# Altium footprint library 36903205S.PcbLib: 1 footprints
Each footprint in its own frame and in the unit in brackets; x right, y up, seen from the top. Pads: shape width x height; smd on the part's side, far side on the other; paste and mask are expansions set on the pad; w line width, h text height; cw(c..) or ccw(c..) is an arc to the next point about the centre after c.
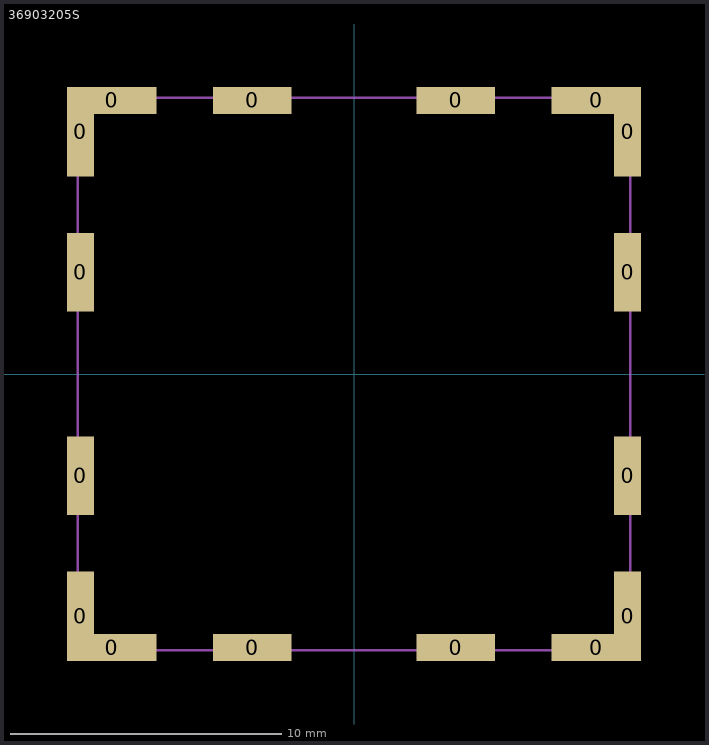
[diagram p0: the footprint, top view; thin cyan lines are the x and y axes]

## 36903205S [mm] "RF COVER 20x20x3mm SNAP FIT"
height 3.2
pads (16):
  rect 1x3.3 smd: 0(-10.1,-8.95) 0(-10.1,8.95) 0(10.1,-8.95) 0(10.1,8.95)
  rect 1x2.9 smd: 0(-10.1,-3.75) 0(-10.1,3.75) 0(10.1,-3.75) 0(10.1,3.75)
  rect 3.3x1 smd: 0(-8.95,-10.1) 0(-8.95,10.1) 0(8.95,-10.1) 0(8.95,10.1)
  rect 2.9x1 smd: 0(-3.75,-10.1) 0(-3.75,10.1) 0(3.75,-10.1) 0(3.75,10.1)
Mechanical 13:
  lines w0.1: -10.2,-10.2 -10.2,10.2 10.2,10.2 10.2,-10.2 -10.2,-10.2
3D body "Download_STP_WE-SHC-36903205S+%28rev1%29.stp": height 3.2, standoff 0, extent -10.2,-10.2 10.2,10.2